# Altium footprint library MiniWS.PcbLib: 27 footprints (part 2 of 2)
Each footprint in its own frame and in the unit in brackets; x right, y up, seen from the top. Pads: shape width x height; smd on the part's side, far side on the other; paste and mask are expansions set on the pad; w line width, h text height; cw(c..) or ccw(c..) is an arc to the next point about the centre after c.
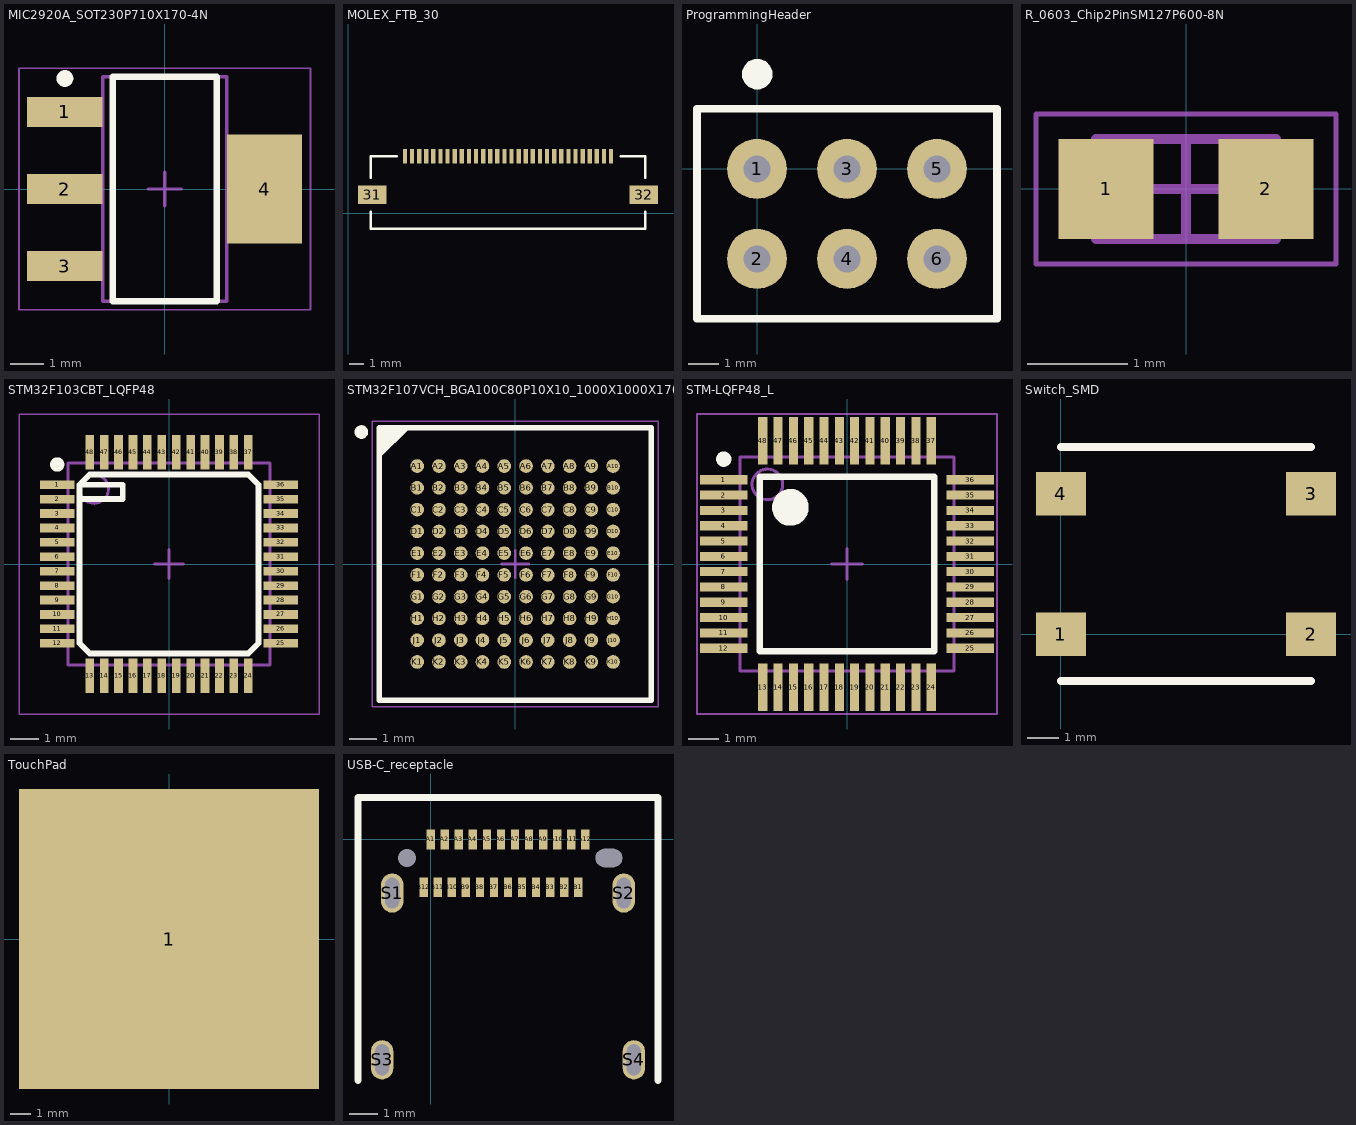
[diagram p1: the footprints below, top view; thin cyan lines are the x and y axes]

## MIC2920A_SOT230P710X170-4N [mm] "SOT223, 4-Leads, Body 6.50x7.10mm (avg), Pitch 2.30mm, IPC Medium Density"
height 1.7
pads (4):
  rect 2.25x0.9 smd: 1(-2.98,2.3) 2(-2.98,0) 3(-2.98,-2.3)
  rect 2.25x3.25 smd: 4(2.98,0)
Top Overlay:
  circle w0.25: c-2.98,3.3 r0.125
  lines w0.2: -1.55,-3.35 -1.55,3.35 1.55,3.35 1.55,-3.35 -1.55,-3.35
Mechanical 13:
  lines w0.1: -1.855,-3.35 -1.855,3.35 1.855,3.35 1.855,-3.35 -1.855,-3.35
Mechanical 15:
  lines w0.05: -4.35,-3.6 -4.35,3.6 4.35,3.6 4.35,-3.6 -4.35,-3.6
  lines w0.1: -0.5,0 0.5,0 ; 0,-0.5 0,0.5
3D body "MIC2920A_SOT230P710X170-4N.step": height 1.7, standoff 0, extent -3.55,-3.35 3.55,3.35

## MOLEX_FTB_30 [mm]
pads (32):
  rect 0.3x1 smd mask+0.02: 1(18.5,4) 2(18,4) 3(17.5,4) 4(17,4) 5(16.5,4) 6(16,4) 7(15.5,4) 8(15,4) 9(14.5,4) 10(14,4) 11(13.5,4) 12(13,4) 13(12.5,4) 14(12,4) 15(11.5,4) 16(11,4) 17(10.5,4) 18(10,4) 19(9.5,4) 20(9,4) 21(8.5,4) 22(8,4) 23(7.5,4) 24(7,4) 25(6.5,4) 26(6,4) 27(5.5,4) 28(5,4) 29(4.5,4) 30(4,4)
  rect 2x1.3 smd: 31(1.7,1.3) 32(20.8,1.3)
Top Overlay:
  lines w0.2: 1.6,0.1 1.6,-1.1 20.9,-1.1 20.9,0.1 ; 1.6,2.5 1.6,4 3.4,4 ; 19.2,4 20.9,4 20.9,2.5
3D body "MOLEX.stp": height 1.88, standoff -0.02, extent 1,-1.125 21.5,4.175

## PCBComponent_1 - duplicate [mm]

## ProgrammingHeader [mm]
pads (6):
  round 2 hole 0.9 mask+0.05: 1(0,0) 2(0,-3) 3(3,0) 4(3,-3) 5(6,0) 6(6,-3)
Top Overlay:
  region: -0.491,3.162 -0.491,3.261 -0.415,3.445 -0.275,3.586 -0.091,3.662 0.009,3.662 0.108,3.662 0.292,3.586 0.433,3.445 0.509,3.261 0.509,3.162 0.509,3.062 0.433,2.879 0.292,2.738 0.108,2.662 0.009,2.662 -0.091,2.662 -0.275,2.738 -0.415,2.879 -0.491,3.062
  lines w0.254: -2,-5 8,-5 8,2 -2,2 -2,-5

## R_0603_Chip2PinSM127P600-8N [mm]
height 1
pads (2):
  rect 0.95x1 smd: 1(-0.8,0) 2(0.8,0)
Mechanical 13:
  lines w0.1: -0.9,-0.5 0.9,-0.5 0.9,0.5 -0.9,0.5 -0.9,-0.5
Mechanical 15:
  lines w0.05: -1.5,-0.75 1.5,-0.75 1.5,0.75 -1.5,0.75 -1.5,-0.75
  lines w0.1: -0.5,0 0.5,0 ; 0,-0.5 0,0.5
3D body "R_0603_Chip2PinSM127P600-8N.step": height 1, standoff 0, extent -0.9,-0.5 0.9,0.5

## STM32F103CBT_LQFP48 [mm]
height 1.6
pads (48):
  rect 1.2x0.3 smd mask+0.05: 1(-3.875,2.75) 2(-3.875,2.25) 3(-3.875,1.75) 4(-3.875,1.25) 5(-3.875,0.75) 6(-3.875,0.25) 7(-3.875,-0.25) 8(-3.875,-0.75) 9(-3.875,-1.25) 10(-3.875,-1.75) 11(-3.875,-2.25) 12(-3.875,-2.75) 25(3.875,-2.75) 26(3.875,-2.25) 27(3.875,-1.75) 28(3.875,-1.25) 29(3.875,-0.75) 30(3.875,-0.25) 31(3.875,0.25) 32(3.875,0.75) 33(3.875,1.25) 34(3.875,1.75) 35(3.875,2.25) 36(3.875,2.75)
  rect 0.3x1.2 smd mask+0.05: 13(-2.75,-3.875) 14(-2.25,-3.875) 15(-1.75,-3.875) 16(-1.25,-3.875) 17(-0.75,-3.875) 18(-0.25,-3.875) 19(0.25,-3.875) 20(0.75,-3.875) 21(1.25,-3.875) 22(1.75,-3.875) 23(2.25,-3.875) 24(2.75,-3.875) 37(2.75,3.875) 38(2.25,3.875) 39(1.75,3.875) 40(1.25,3.875) 41(0.75,3.875) 42(0.25,3.875) 43(-0.25,3.875) 44(-0.75,3.875) 45(-1.25,3.875) 46(-1.75,3.875) 47(-2.25,3.875) 48(-2.75,3.875)
Top Overlay:
  circle w0.25: c-3.875,3.45 r0.125
  lines w0.2: -3.1,2.25 -1.6,2.25 -1.6,2.75 -3.1,2.75 ; -3.1,2.75 -3.1,-2.75 -2.75,-3.1 2.75,-3.1 3.1,-2.75 3.1,2.75 2.75,3.1 -2.75,3.1 -3.1,2.75
Mechanical 13:
  circle w0.1: c-2.6,2.6 r0.5
  lines w0.1: -3.5,-3.5 -3.5,3.5 3.5,3.5 3.5,-3.5 -3.5,-3.5
Mechanical 15:
  lines w0.05: -5.2,-5.2 -5.2,5.2 5.2,5.2 5.2,-5.2 -5.2,-5.2
  lines w0.1: -0.5,0 0.5,0 ; 0,-0.5 0,0.5
3D body "STM32F103CBT_LQFP48.step": height 1.55, standoff 0, extent -4.6,-4.6 4.6,4.6

## STM32F107VCH_BGA100C80P10X10_1000X1000X170 [mm] "BGA, 100-Leads, Body 10.00x10.00mmx1.70mm, Pitch 0.80mm"
height 1.7
pads (100):
  round 0.5 smd mask+0.035: A1(-3.6,3.6) A2(-2.8,3.6) A3(-2,3.6) A4(-1.2,3.6) A5(-0.4,3.6) A6(0.4,3.6) A7(1.2,3.6) A8(2,3.6) A9(2.8,3.6) A10(3.6,3.6) B1(-3.6,2.8) B2(-2.8,2.8) B3(-2,2.8) B4(-1.2,2.8) B5(-0.4,2.8) B6(0.4,2.8) B7(1.2,2.8) B8(2,2.8) B9(2.8,2.8) B10(3.6,2.8) C1(-3.6,2) C2(-2.8,2) C3(-2,2) C4(-1.2,2) C5(-0.4,2) C6(0.4,2) C7(1.2,2) C8(2,2) C9(2.8,2) C10(3.6,2) D1(-3.6,1.2) D2(-2.8,1.2) D3(-2,1.2) D4(-1.2,1.2) D5(-0.4,1.2) D6(0.4,1.2) D7(1.2,1.2) D8(2,1.2) D9(2.8,1.2) D10(3.6,1.2) E1(-3.6,0.4) E2(-2.8,0.4) E3(-2,0.4) E4(-1.2,0.4) E5(-0.4,0.4) E6(0.4,0.4) E7(1.2,0.4) E8(2,0.4) E9(2.8,0.4) E10(3.6,0.4) F1(-3.6,-0.4) F2(-2.8,-0.4) F3(-2,-0.4) F4(-1.2,-0.4) F5(-0.4,-0.4) F6(0.4,-0.4) F7(1.2,-0.4) F8(2,-0.4) F9(2.8,-0.4) F10(3.6,-0.4) G1(-3.6,-1.2) G2(-2.8,-1.2) G3(-2,-1.2) G4(-1.2,-1.2) G5(-0.4,-1.2) G6(0.4,-1.2) G7(1.2,-1.2) G8(2,-1.2) G9(2.8,-1.2) G10(3.6,-1.2) H1(-3.6,-2) H2(-2.8,-2) H3(-2,-2) H4(-1.2,-2) H5(-0.4,-2) H6(0.4,-2) H7(1.2,-2) H8(2,-2) H9(2.8,-2) H10(3.6,-2) J1(-3.6,-2.8) J2(-2.8,-2.8) J3(-2,-2.8) J4(-1.2,-2.8) J5(-0.4,-2.8) J6(0.4,-2.8) J7(1.2,-2.8) J8(2,-2.8) J9(2.8,-2.8) J10(3.6,-2.8) K1(-3.6,-3.6) K2(-2.8,-3.6) K3(-2,-3.6) K4(-1.2,-3.6) K5(-0.4,-3.6) K6(0.4,-3.6) K7(1.2,-3.6) K8(2,-3.6) K9(2.8,-3.6) K10(3.6,-3.6)
Top Overlay:
  circle w0.25: c-5.65,4.85 r0.125
  region: -4,5 -5,4 -5,5
  lines w0.2: -5,4 -4,5 ; -5,-5 5,-5 5,5 -5,5 -5,-5
Mechanical 13:
  lines w0.1: -5,-5 5,-5 5,5 -5,5 -5,-5
Mechanical 15:
  lines w0.05: -5.25,-5.25 5.25,-5.25 5.25,5.25 -5.25,5.25 -5.25,-5.25
  lines w0.1: -0.5,0 0.5,0 ; 0,-0.5 0,0.5
3D body "STM32F107VCH_BGA100C80P10X10_1000X1000X170.step": height 1.7, standoff 0, extent -5,-5 5,5

## STM-LQFP48_L [mm] "QFP, 48-Leads, Body 7x7mm, Pitch 0.5mm, IPC High Density"
height 1.6
pads (48):
  rect 1.55x0.3 smd mask+0.05: 1(-4.025,2.75) 2(-4.025,2.25) 3(-4.025,1.75) 4(-4.025,1.25) 5(-4.025,0.75) 6(-4.025,0.25) 7(-4.025,-0.25) 8(-4.025,-0.75) 9(-4.025,-1.25) 10(-4.025,-1.75) 11(-4.025,-2.25) 12(-4.025,-2.75) 25(4.025,-2.75) 26(4.025,-2.25) 27(4.025,-1.75) 28(4.025,-1.25) 29(4.025,-0.75) 30(4.025,-0.25) 31(4.025,0.25) 32(4.025,0.75) 33(4.025,1.25) 34(4.025,1.75) 35(4.025,2.25) 36(4.025,2.75)
  rect 0.3x1.55 smd mask+0.05: 13(-2.75,-4.025) 14(-2.25,-4.025) 15(-1.75,-4.025) 16(-1.25,-4.025) 17(-0.75,-4.025) 18(-0.25,-4.025) 19(0.25,-4.025) 20(0.75,-4.025) 21(1.25,-4.025) 22(1.75,-4.025) 23(2.25,-4.025) 24(2.75,-4.025) 37(2.75,4.025) 38(2.25,4.025) 39(1.75,4.025) 40(1.25,4.025) 41(0.75,4.025) 42(0.25,4.025) 43(-0.25,4.025) 44(-0.75,4.025) 45(-1.25,4.025) 46(-1.75,4.025) 47(-2.25,4.025) 48(-2.75,4.025)
Top Overlay:
  circle w0.25: c-4.025,3.425 r0.125
  circle w0.6: c-1.85,1.85 r0.3
  lines w0.2: -2.85,-2.85 -2.85,2.85 2.85,2.85 2.85,-2.85 -2.85,-2.85
Mechanical 13:
  circle w0.1: c-2.6,2.6 r0.5
  lines w0.1: -3.5,-3.5 -3.5,3.5 3.5,3.5 3.5,-3.5 -3.5,-3.5
Mechanical 15:
  lines w0.05: -4.9,-4.9 -4.9,4.9 4.9,4.9 4.9,-4.9 -4.9,-4.9
  lines w0.1: -0.5,0 0.5,0 ; 0,-0.5 0,0.5
3D body: height 1.6, standoff 0.05, extent -3.5,-3.5 3.5,3.5

## Switch_SMD [mm]
pads (4):
  rect 1.6x1.4 smd mask+0.05: 1(0,0) 2(8,0) 3(8,4.5) 4(0,4.5)
Top Overlay:
  lines w0.254: 0,-1.5 8,-1.5 ; 0,6 8,6
3D body "Taster.step": height 3, standoff -0.1, extent 0,-0.9 8,5.4

## TouchPad [mm]
pads (1):
  rect 15x15 smd mask+0.05: 1(0,0)

## USB-C_receptacle [mm]
pads (30):
  rect 0.3x0.7 smd mask+0.05: A1(0,0) A2(0.5,0) A3(1,0) A4(1.5,0) A5(2,0) A6(2.5,0) A7(3,0) A8(3.5,0) A9(4,0) A10(4.5,0) A11(5,0) A12(5.5,0) B1(5.25,-1.7) B2(4.75,-1.7) B3(4.25,-1.7) B4(3.75,-1.7) B5(3.25,-1.7) B6(2.75,-1.7) B7(2.25,-1.7) B8(1.75,-1.7) B9(1.25,-1.7) B10(0.75,-1.7) B11(0.25,-1.7) B12(-0.25,-1.7)
  rrect100% 0.8x1.4 hole 0.5 slot 1.1 at 90 deg mask+0.05: S1(-1.38,-1.91) S2(6.88,-1.91) S3(-1.74,-7.86) S4(7.24,-7.86)
  round 0.3 hole 0.65 mask+0.05: ""(-0.85,-0.66)
  round 0.3 hole 0.65 slot 0.95 at 0 deg mask+0.05: ""(6.35,-0.66)
Top Overlay:
  lines w0.254: -2.6,-8.6 -2.6,1.5 8.1,1.5 8.1,-8.6
3D body "USB_C.stp": height 3.25, standoff -1.33, extent -1.85,-10.25 7.35,0.3